# EAGLE library part WE-SPXO_IQXO-624 (library WE-SPXO)
WE-SPXO Simple Packaged Quartz Oscillator Characteristics SMT models Hermetically sealed Frequencies between 3.6864 MHz and 156.25 MHz plus 32.768 kHz Maximum operating temperatures range: -40 °C to 125 °C Stabilities down to ±25 ppm available Available supply voltages: 1.8 V; 2.5 V; 3.3 V; 5 V and 1.62 V to 3.63 V Available output signal types: CMOS; LVDS; LVPECL Applications Microprocessor Wireless Communication Devices Industrial Devices Real Time Clocks Wired Communication (e.g. Ethernet and USB) IoT Optical Network Audio and Multimedia Devices Test and Measurement Equipment Navigation and Locators <https://www.we-online.com/components/media/o135918v209%20WE%20SPXO%20Group.jpg> Details see: www.we-online.com/en/components/products/WE-SPXO <www.we-online.com/catalog/WE-SPXO/?utm_source=eagle_model&utm_medium=description_link&utm_campaign=eisos_eagle> Updated by Ella 2025-03-07 2025 (C) Wurth Elektronik
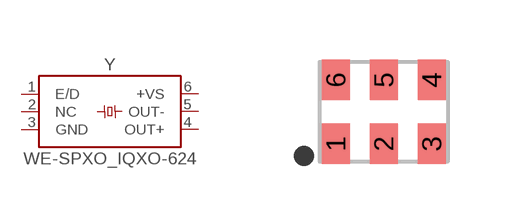
[diagram p1: symbol with the pads of WE-SPXO_IQXO-624; footprint WE-SPXO_IQXO-624]

Designator prefix Y

## WE-SPXO_IQXO-624_830208334301 (DATASHEET-URL: https://www.we-online.com/redexpert/spec/830208334301?ae; FREQUENCY: 100 MHz; HEIGHT: 1.1mm; LENGTH: 3.2mm; MOUNT: SMT; OPERATING-TEMPERATURE: -40 °C up to +105 °C; OUTPUT-LOGIC: LVPECL; PART-NUMBER: 830208334301; SIZE: IQXO-624; STABILITY: 50ppm; V-SUPPLY: 3.3 V; VALUE: 100 MHz; WIDTH: 2.5mm), WE-SPXO_IQXO-624_830208334501 (DATASHEET-URL: https://www.we-online.com/redexpert/spec/830208334501?ae; FREQUENCY: 125 MHz; HEIGHT: 1.1mm; LENGTH: 3.2mm; MOUNT: SMT; OPERATING-TEMPERATURE: -40 °C up to +105 °C; OUTPUT-LOGIC: LVPECL; PART-NUMBER: 830208334501; SIZE: IQXO-624; STABILITY: 50ppm; V-SUPPLY: 3.3 V; VALUE: 125 MHz; WIDTH: 2.5mm), WE-SPXO_IQXO-624_830208334601 (DATASHEET-URL: https://www.we-online.com/redexpert/spec/830208334601?ae; FREQUENCY: 156.25 MHz; HEIGHT: 1.1mm; LENGTH: 3.2mm; MOUNT: SMT; OPERATING-TEMPERATURE: -40 °C up to +105 °C; OUTPUT-LOGIC: LVPECL; PART-NUMBER: 830208334601; SIZE: IQXO-624; STABILITY: 50ppm; V-SUPPLY: 3.3 V; VALUE: 156.25 MHz; WIDTH: 2.5mm)  [WE-SPXO_IQXO-624]
1  E/D  pas
2  NC  pas
3  GND  pas
4  OUT+  pas
5  OUT-  pas
6  +VS  pas

## Footprint WE-SPXO_IQXO-624 (pad centres in mm)
WE-SPXO Simple Packaged Quartz Oscillator Size : IQXO-623 L X W X H = 3.2mm X 2.5mm X 1.1mm
smd 0.7 x 1: 1 -1.2,-0.8; 2 0,-0.8; 3 1.2,-0.8; 4 1.2,0.8; 5 0,0.8; 6 -1.2,0.8